# EAGLE library part AS-ITM-00333 (library tinycircuits)
Half Bridge (2) Drive NMOS 24-VQFN (5.5x3.5)
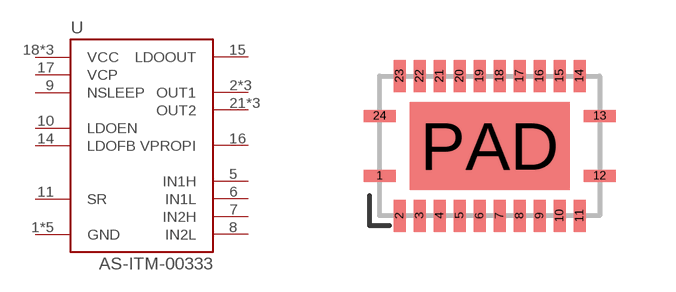
[diagram p130: symbol with the pads of VQFN-24_5.5X3.5; footprint VQFN-24_5.5X3.5]

Designator prefix U

## AS-ITM-00333 (PARTNO: AS-ITM-00333; VALUE: DRV8850RGYR)  [VQFN-24_5.5X3.5]
1  GND
2  OUT1
3  OUT1
4  OUT1
5  IN1H
6  IN1L
7  IN2H
8  IN2L
9  NSLEEP
10  LDOEN
11  SR
12  GND
13  GND
14  LDOFB
15  LDOOUT
16  VPROPI
17  VCP
18  VCC
19  VCC
20  VCC
21  OUT2
22  OUT2
23  OUT2
24  GND
PAD  GND

## Footprint VQFN-24_5.5X3.5 (pad centres in mm)
smd 0.8 x 0.3: 1 -2.75,-0.75; 12 2.75,-0.75; 13 2.75,0.75; 24 -2.75,0.75
smd 0.3 x 0.8: 2 -2.25,-1.75; 3 -1.75,-1.75; 4 -1.25,-1.75; 5 -0.75,-1.75; 6 -0.25,-1.75; 7 0.25,-1.75; 8 0.75,-1.75; 9 1.25,-1.75; 10 1.75,-1.75; 11 2.25,-1.75; 14 2.25,1.75; 15 1.75,1.75; 16 1.25,1.75; 17 0.75,1.75; 18 0.25,1.75; 19 -0.25,1.75; 20 -0.75,1.75; 21 -1.25,1.75; 22 -1.75,1.75; 23 -2.25,1.75
smd 4 x 2.2: PAD 0,0